# Altium footprint library Teensy_3_and_LC_Series_Boards_v1.PCBLIB: 13 footprints
Each footprint in its own frame and in the unit in brackets; x right, y up, seen from the top. Pads: shape width x height; smd on the part's side, far side on the other; paste and mask are expansions set on the pad; w line width, h text height; cw(c..) or ccw(c..) is an arc to the next point about the centre after c.
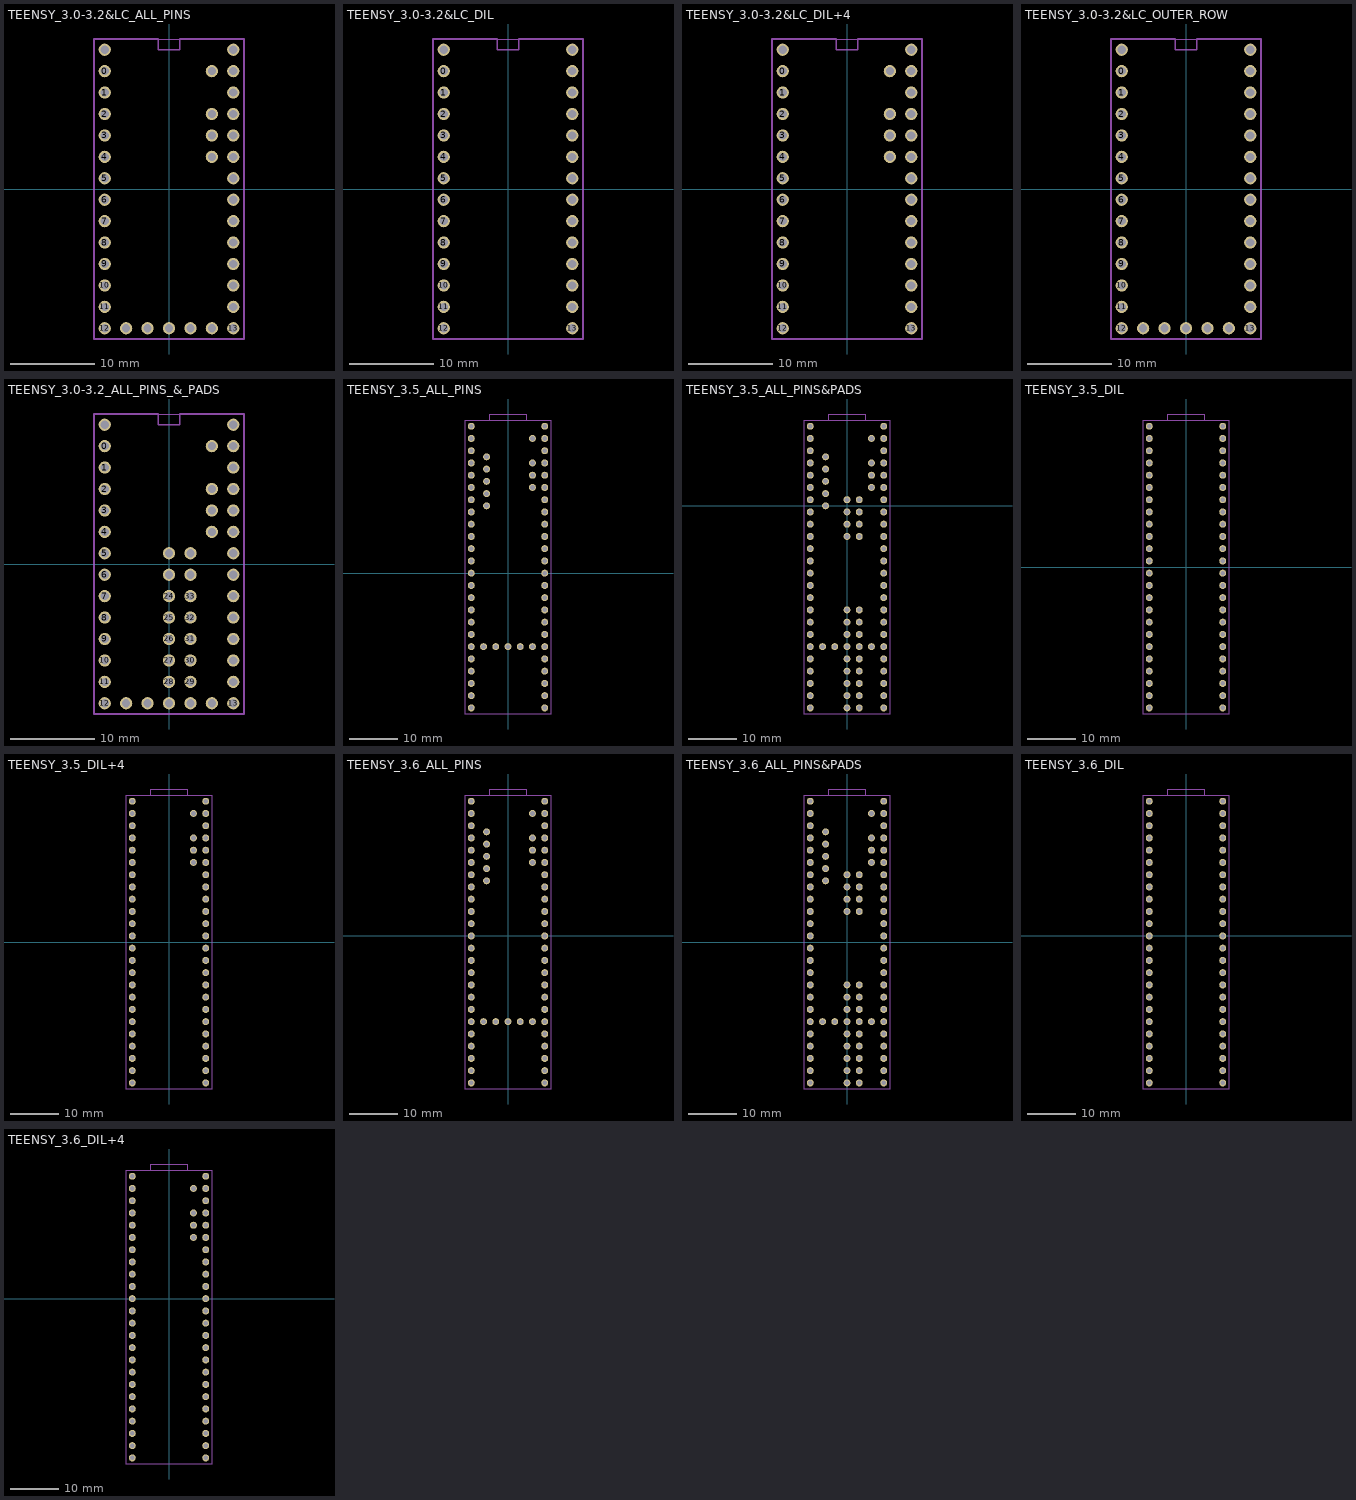
[diagram p0: the footprints below, top view; thin cyan lines are the x and y axes]

## TEENSY_3.0-3.2&LC_ALL_PINS [mil]
pads (37):
  round 57 / inner round 60 / far side round 57 hole 38: 0(-300,550) 1(-300,450) 2(-300,350) 3(-300,250) 3.3V(300,450) 3.3V1(-100,-650) 4(-300,150) 5(-300,50) 6(-300,-50) 7(-300,-150) 8(-300,-250) 9(-300,-350) 10(-300,-450) 11(-300,-550) 12(-300,-650) 13(300,-650) 14/A0(300,-550) 15/A1(300,-450) 16/A2(300,-350) 17/A3(300,-250) 18/A4(300,-150) 19/A5(300,-50) 20/A6(300,50) 21/A7(300,150) 22/A8(300,250) 23/A9(300,350) A10(200,250) A11(200,150) AGND(300,550) AREF(200,350) GND(-300,650) GND1(0,-650) PGM(100,-650) RESET/DAC(200,-650) VBAT(-200,-650) VIN(300,650) VUSB(200,550)
Assembly Top:
  lines w5: -350,-700 350,-700 350,700 -350,700 -350,-700
Mechanical 22:
  lines w8: -350,-700 350,-700 350,700 50,700 50,650 -50,650 -50,700 -350,700 -350,-700

## TEENSY_3.0-3.2&LC_DIL [mil]
pads (28):
  round 57 / inner round 60 / far side round 57 hole 38: 0(-300,550) 1(-300,450) 2(-300,350) 3(-300,250) 3.3V(300,450) 4(-300,150) 5(-300,50) 6(-300,-50) 7(-300,-150) 8(-300,-250) 9(-300,-350) 10(-300,-450) 11(-300,-550) 12(-300,-650) 13(300,-650) 14/A0(300,-550) 15/A1(300,-450) 16/A2(300,-350) 17/A3(300,-250) 18/A4(300,-150) 19/A5(300,-50) 20/A6(300,50) 21/A7(300,150) 22/A8(300,250) 23/A9(300,350) AGND(300,550) GND(-300,650) VIN(300,650)
Assembly Top:
  lines w5: -350,-700 350,-700 350,700 -350,700 -350,-700
Mechanical 22:
  lines w8: -350,-700 350,-700 350,700 50,700 50,650 -50,650 -50,700 -350,700 -350,-700

## TEENSY_3.0-3.2&LC_DIL+4 [mil]
pads (32):
  round 57 / inner round 60 / far side round 57 hole 38: 0(-300,550) 1(-300,450) 2(-300,350) 3(-300,250) 3.3V(300,450) 4(-300,150) 5(-300,50) 6(-300,-50) 7(-300,-150) 8(-300,-250) 9(-300,-350) 10(-300,-450) 11(-300,-550) 12(-300,-650) 13(300,-650) 14/A0(300,-550) 15/A1(300,-450) 16/A2(300,-350) 17/A3(300,-250) 18/A4(300,-150) 19/A5(300,-50) 20/A6(300,50) 21/A7(300,150) 22/A8(300,250) 23/A9(300,350) A10(200,250) A11(200,150) AGND(300,550) AREF(200,350) GND(-300,650) VIN(300,650) VUSB(200,550)
Assembly Top:
  lines w5: -350,-700 350,-700 350,700 -350,700 -350,-700
Mechanical 22:
  lines w8: -350,-700 350,-700 350,700 50,700 50,650 -50,650 -50,700 -350,700 -350,-700

## TEENSY_3.0-3.2&LC_OUTER_ROW [mil]
pads (33):
  round 57 / inner round 60 / far side round 57 hole 38: 0(-300,550) 1(-300,450) 2(-300,350) 3(-300,250) 3.3V(300,450) 3.3V1(-100,-650) 4(-300,150) 5(-300,50) 6(-300,-50) 7(-300,-150) 8(-300,-250) 9(-300,-350) 10(-300,-450) 11(-300,-550) 12(-300,-650) 13(300,-650) 14/A0(300,-550) 15/A1(300,-450) 16/A2(300,-350) 17/A3(300,-250) 18/A4(300,-150) 19/A5(300,-50) 20/A6(300,50) 21/A7(300,150) 22/A8(300,250) 23/A9(300,350) AGND(300,550) GND(-300,650) GND1(0,-650) PGM(100,-650) RESET/DAC(200,-650) VBAT(-200,-650) VIN(300,650)
Assembly Top:
  lines w5: -350,-700 350,-700 350,700 -350,700 -350,-700
Mechanical 22:
  lines w8: -350,-700 350,-700 350,700 50,700 50,650 -50,650 -50,700 -350,700 -350,-700

## TEENSY_3.0-3.2_ALL_PINS_&_PADS [mil]
pads (51):
  round 57 / inner round 60 / far side round 57 hole 38: 0(-300,550) 1(-300,450) 2(-300,350) 3(-300,250) 3.3V(300,450) 3.3V1(-100,-650) 3.3V2(100,-50) 4(-300,150) 5(-300,50) 6(-300,-50) 7(-300,-150) 8(-300,-250) 9(-300,-350) 10(-300,-450) 11(-300,-550) 12(-300,-650) 13(300,-650) 14/A0(300,-550) 15/A1(300,-450) 16/A2(300,-350) 17/A3(300,-250) 18/A4(300,-150) 19/A5(300,-50) 20/A6(300,50) 21/A7(300,150) 22/A8(300,250) 23/A9(300,350) 24(0,-150) 25(0,-250) 26(0,-350) 27(0,-450) 28(0,-550) 29(100,-550) 30(100,-450) 31(100,-350) 32(100,-250) 33(100,-150) A10(200,250) A11(200,150) A12(0,50) A13(100,50) AGND(300,550) AREF(200,350) GND(-300,650) GND1(0,-650) GND2(0,-50) PGM(100,-650) RESET/DAC(200,-650) VBAT(-200,-650) VIN(300,650) VUSB(200,550)
Assembly Top:
  lines w5: -350,-700 350,-700 350,700 -350,700 -350,-700
Mechanical 22:
  lines w8: -350,-700 350,-700 350,700 50,700 50,650 -50,650 -50,700 -350,700 -350,-700

## TEENSY_3.5_ALL_PINS [mil]
pads (62):
  round 57 / inner round 60 / far side round 57 hole 38: 0(-300,1100) 1(-300,1000) 2(-300,900) 3(-300,800) 3.3V(300,1000) 3.3V3(-300,-200) 3.3V4(-100,-600) 4(-300,700) 5(-300,600) 6(-300,500) 7(-300,400) 8(-300,300) 9(-300,200) 10(-300,100) 11(-300,0) 12(-300,-100) 13(300,-100) 14/A0(300,0) 15/A1(300,100) 16/A2(300,200) 17/A3(300,300) 18/A4(300,400) 19/A5(300,500) 20/A6(300,600) 21/A7(300,700) 22/A8(300,800) 23/A9(300,900) 24(-300,-300) 25(-300,-400) 26(-300,-500) 27(-300,-600) 28(-300,-700) 29(-300,-800) 30(-300,-900) 31/A12(-300,-1000) 32/A13(-300,-1100) 33/A14(300,-1100) 34/A15(300,-1000) 35/A16(300,-900) 36/A17(300,-800) 37/A18(300,-700) 38/A19(300,-600) 39/A20(300,-500) A10(200,800) A11(200,700) A21(300,-400) A22(300,-300) A25(-175,750) A26(-175,850) AGND(300,1100) AREF(200,900) GND(-300,1200) GND1(300,-200) GND3(-175,650) GND4(-175,550) GND6(0,-600) NC(-175,950) PGM(100,-600) RESET(200,-600) VBAT(-200,-600) VIN(300,1200) VUSB(200,1100)
Assembly Top:
  lines w5: -350,-1150 350,-1150 350,1250 -350,1250 -350,-1150
Mechanical 22:
  lines w8: -350,-1150 350,-1150 350,1250 150,1250 150,1300 -150,1300 -150,1250 -350,1250 -350,-1150

## TEENSY_3.5_ALL_PINS&PADS [mil]
pads (86):
  round 57 / inner round 60 / far side round 57 hole 38: 0(-300,550) 1(-300,450) 2(-300,350) 3(-300,250) 3.3V(300,450) 3.3V2(100,-1650) 3.3V3(-300,-750) 3.3V4(-100,-1150) 4(-300,150) 5(-300,50) 6(-300,-50) 7(-300,-150) 8(-300,-250) 9(-300,-350) 10(-300,-450) 11(-300,-550) 12(-300,-650) 13(300,-650) 14/A0(300,-550) 15/A1(300,-450) 16/A2(300,-350) 17/A3(300,-250) 18/A4(300,-150) 19/A5(300,-50) 20/A6(300,50) 21/A7(300,150) 22/A8(300,250) 23/A9(300,350) 24(-300,-850) 25(-300,-950) 26(-300,-1050) 27(-300,-1150) 28(-300,-1250) 29(-300,-1350) 30(-300,-1450) 31/A12(-300,-1550) 32/A13(-300,-1650) 33/A14(300,-1650) 34/A15(300,-1550) 35/A16(300,-1450) 36/A17(300,-1350) 37/A18(300,-1250) 38/A19(300,-1150) 39/A20(300,-1050) 40(0,-850) 41(0,-950) 42(0,-1050) 43(0,-1250) 44(0,-1350) 45(0,-1450) 46(0,-1550) 47(100,-1550) 48(100,-1450) 49(100,-1350) 50(100,-1250) 51(100,-1050) 52(100,-950) 53(100,-850) 54(100,-250) 55(100,-150) 56(100,-50) 57(100,50) A10(200,250) A11(200,150) A21(300,-950) A22(300,-850) A25(-175,200) A26(-175,300) AGND(300,550) AREF(200,350) DC(0,-150) DE(0,-50) DO(0,-250) GND(-300,650) GND1(300,-750) GND2(0,50) GND3(-175,100) GND4(-175,0) GND5(0,-1650) GND6(0,-1150) NC(-175,400) PGM(100,-1150) RESET(200,-1150) VBAT(-200,-1150) VIN(300,650) VUSB(200,550)
Assembly Top:
  lines w5: -350,-1700 350,-1700 350,700 -350,700 -350,-1700
Mechanical 22:
  lines w8: -350,-1700 350,-1700 350,700 150,700 150,750 -150,750 -150,700 -350,700 -350,-1700

## TEENSY_3.5_DIL [mil]
pads (48):
  round 57 / inner round 60 / far side round 57 hole 38: 0(-300,1050) 1(-300,950) 2(-300,850) 3(-300,750) 3.3V(300,950) 3.3V3(-300,-250) 4(-300,650) 5(-300,550) 6(-300,450) 7(-300,350) 8(-300,250) 9(-300,150) 10(-300,50) 11(-300,-50) 12(-300,-150) 13(300,-150) 14/A0(300,-50) 15/A1(300,50) 16/A2(300,150) 17/A3(300,250) 18/A4(300,350) 19/A5(300,450) 20/A6(300,550) 21/A7(300,650) 22/A8(300,750) 23/A9(300,850) 24(-300,-350) 25(-300,-450) 26(-300,-550) 27(-300,-650) 28(-300,-750) 29(-300,-850) 30(-300,-950) 31/A12(-300,-1050) 32/A13(-300,-1150) 33/A14(300,-1150) 34/A15(300,-1050) 35/A16(300,-950) 36/A17(300,-850) 37/A18(300,-750) 38/A19(300,-650) 39/A20(300,-550) A21(300,-450) A22(300,-350) AGND(300,1050) GND(-300,1150) GND1(300,-250) VIN(300,1150)
Assembly Top:
  lines w5: -350,-1200 350,-1200 350,1200 -350,1200 -350,-1200
Mechanical 22:
  lines w8: -350,-1200 350,-1200 350,1200 150,1200 150,1250 -150,1250 -150,1200 -350,1200 -350,-1200

## TEENSY_3.5_DIL+4 [mil]
pads (52):
  round 57 / inner round 60 / far side round 57 hole 38: 0(-300,1050) 1(-300,950) 2(-300,850) 3(-300,750) 3.3V(300,950) 3.3V3(-300,-250) 4(-300,650) 5(-300,550) 6(-300,450) 7(-300,350) 8(-300,250) 9(-300,150) 10(-300,50) 11(-300,-50) 12(-300,-150) 13(300,-150) 14/A0(300,-50) 15/A1(300,50) 16/A2(300,150) 17/A3(300,250) 18/A4(300,350) 19/A5(300,450) 20/A6(300,550) 21/A7(300,650) 22/A8(300,750) 23/A9(300,850) 24(-300,-350) 25(-300,-450) 26(-300,-550) 27(-300,-650) 28(-300,-750) 29(-300,-850) 30(-300,-950) 31/A12(-300,-1050) 32/A13(-300,-1150) 33/A14(300,-1150) 34/A15(300,-1050) 35/A16(300,-950) 36/A17(300,-850) 37/A18(300,-750) 38/A19(300,-650) 39/A20(300,-550) A10(200,750) A11(200,650) A21(300,-450) A22(300,-350) AGND(300,1050) AREF(200,850) GND(-300,1150) GND1(300,-250) VIN(300,1150) VUSB(200,1050)
Assembly Top:
  lines w5: -350,-1200 350,-1200 350,1200 -350,1200 -350,-1200
Mechanical 22:
  lines w8: -350,-1200 350,-1200 350,1200 150,1200 150,1250 -150,1250 -150,1200 -350,1200 -350,-1200

## TEENSY_3.6_ALL_PINS [mil]
pads (62):
  round 57 / inner round 60 / far side round 57 hole 38: 0(-300,1000) 1(-300,900) 2(-300,800) 3(-300,700) 3.3V(300,900) 3.3V3(-300,-300) 3.3V4(-100,-700) 4(-300,600) 5(-300,500) 6(-300,400) 7(-300,300) 8(-300,200) 9(-300,100) 10(-300,0) 11(-300,-100) 12(-300,-200) 13(300,-200) 14/A0(300,-100) 15/A1(300,0) 16/A2(300,100) 17/A3(300,200) 18/A4(300,300) 19/A5(300,400) 20/A6(300,500) 21/A7(300,600) 22/A8(300,700) 23/A9(300,800) 24(-300,-400) 25(-300,-500) 26(-300,-600) 27(-300,-700) 28(-300,-800) 29(-300,-900) 30(-300,-1000) 31/A12(-300,-1100) 32/A13(-300,-1200) 33/A14(300,-1200) 34/A15(300,-1100) 35/A16(300,-1000) 36/A17(300,-900) 37/A18(300,-800) 38/A19(300,-700) 39/A20(300,-600) A10(200,700) A11(200,600) A21(300,-500) A22(300,-400) AGND(300,1000) AREF(200,800) D+(-175,650) D-(-175,750) GND(-300,1100) GND1(300,-300) GND3(-175,550) GND4(-175,450) GND6(0,-700) PGM(100,-700) RESET(200,-700) VBAT(-200,-700) VIN(300,1100) VUSB(200,1000) VUSB1(-175,850)
Assembly Top:
  lines w5: -350,-1250 350,-1250 350,1150 -350,1150 -350,-1250
Mechanical 22:
  lines w8: -350,-1250 350,-1250 350,1150 150,1150 150,1200 -150,1200 -150,1150 -350,1150 -350,-1250

## TEENSY_3.6_ALL_PINS&PADS [mil]
pads (86):
  round 57 / inner round 60 / far side round 57 hole 38: 0(-300,1050) 1(-300,950) 2(-300,850) 3(-300,750) 3.3V(300,950) 3.3V2(100,-1150) 3.3V3(-300,-250) 3.3V4(-100,-650) 4(-300,650) 5(-300,550) 6(-300,450) 7(-300,350) 8(-300,250) 9(-300,150) 10(-300,50) 11(-300,-50) 12(-300,-150) 13(300,-150) 14/A0(300,-50) 15/A1(300,50) 16/A2(300,150) 17/A3(300,250) 18/A4(300,350) 19/A5(300,450) 20/A6(300,550) 21/A7(300,650) 22/A8(300,750) 23/A9(300,850) 24(-300,-350) 25(-300,-450) 26(-300,-550) 27(-300,-650) 28(-300,-750) 29(-300,-850) 30(-300,-950) 31/A12(-300,-1050) 32/A13(-300,-1150) 33/A14(300,-1150) 34/A15(300,-1050) 35/A16(300,-950) 36/A17(300,-850) 37/A18(300,-750) 38/A19(300,-650) 39/A20(300,-550) 40(0,-350) 41(0,-450) 42(0,-550) 43(0,-750) 44(0,-850) 45(0,-950) 46(0,-1050) 47(100,-1050) 48(100,-950) 49(100,-850) 50(100,-750) 51(100,-550) 52(100,-450) 53(100,-350) 54(100,250) 55(100,350) 56(100,450) 57(100,550) A10(200,750) A11(200,650) A21(300,-450) A22(300,-350) AGND(300,1050) AREF(200,850) D+(-175,700) D-(-175,800) DC(0,350) DE(0,450) DO(0,250) GND(-300,1150) GND1(300,-250) GND2(0,550) GND3(-175,600) GND4(-175,500) GND5(0,-1150) GND6(0,-650) PGM(100,-650) RESET(200,-650) VBAT(-200,-650) VIN(300,1150) VUSB(200,1050) VUSB1(-175,900)
Assembly Top:
  lines w5: -350,-1200 350,-1200 350,1200 -350,1200 -350,-1200
Mechanical 22:
  lines w8: -350,-1200 350,-1200 350,1200 150,1200 150,1250 -150,1250 -150,1200 -350,1200 -350,-1200

## TEENSY_3.6_DIL [mil]
pads (48):
  round 57 / inner round 60 / far side round 57 hole 38: 0(-300,1000) 1(-300,900) 2(-300,800) 3(-300,700) 3.3V(300,900) 3.3V3(-300,-300) 4(-300,600) 5(-300,500) 6(-300,400) 7(-300,300) 8(-300,200) 9(-300,100) 10(-300,0) 11(-300,-100) 12(-300,-200) 13(300,-200) 14/A0(300,-100) 15/A1(300,0) 16/A2(300,100) 17/A3(300,200) 18/A4(300,300) 19/A5(300,400) 20/A6(300,500) 21/A7(300,600) 22/A8(300,700) 23/A9(300,800) 24(-300,-400) 25(-300,-500) 26(-300,-600) 27(-300,-700) 28(-300,-800) 29(-300,-900) 30(-300,-1000) 31/A12(-300,-1100) 32/A13(-300,-1200) 33/A14(300,-1200) 34/A15(300,-1100) 35/A16(300,-1000) 36/A17(300,-900) 37/A18(300,-800) 38/A19(300,-700) 39/A20(300,-600) A21(300,-500) A22(300,-400) AGND(300,1000) GND(-300,1100) GND1(300,-300) VIN(300,1100)
Assembly Top:
  lines w5: -350,-1250 350,-1250 350,1150 -350,1150 -350,-1250
Mechanical 22:
  lines w8: -350,-1250 350,-1250 350,1150 150,1150 150,1200 -150,1200 -150,1150 -350,1150 -350,-1250

## TEENSY_3.6_DIL+4 [mil]
pads (52):
  round 57 / inner round 60 / far side round 57 hole 38: 0(-300,900) 1(-300,800) 2(-300,700) 3(-300,600) 3.3V(300,800) 3.3V3(-300,-400) 4(-300,500) 5(-300,400) 6(-300,300) 7(-300,200) 8(-300,100) 9(-300,0) 10(-300,-100) 11(-300,-200) 12(-300,-300) 13(300,-300) 14/A0(300,-200) 15/A1(300,-100) 16/A2(300,0) 17/A3(300,100) 18/A4(300,200) 19/A5(300,300) 20/A6(300,400) 21/A7(300,500) 22/A8(300,600) 23/A9(300,700) 24(-300,-500) 25(-300,-600) 26(-300,-700) 27(-300,-800) 28(-300,-900) 29(-300,-1000) 30(-300,-1100) 31/A12(-300,-1200) 32/A13(-300,-1300) 33/A14(300,-1300) 34/A15(300,-1200) 35/A16(300,-1100) 36/A17(300,-1000) 37/A18(300,-900) 38/A19(300,-800) 39/A20(300,-700) A10(200,600) A11(200,500) A21(300,-600) A22(300,-500) AGND(300,900) AREF(200,700) GND(-300,1000) GND1(300,-400) VIN(300,1000) VUSB(200,900)
Assembly Top:
  lines w5: -350,-1350 350,-1350 350,1050 -350,1050 -350,-1350
Mechanical 22:
  lines w8: -350,-1350 350,-1350 350,1050 150,1050 150,1100 -150,1100 -150,1050 -350,1050 -350,-1350